# Altium schematic symbol library 171977-0004.SchLib: 1 symbol
Pins are listed as number, name and electrical type; pins without a type are passive.

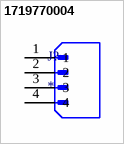
[diagram p0: symbol 1719770004]

## 1719770004
designator J?
2.54mm Pitch SL Header, Single Row, Right-Angle, LCP, Shrouded, Surface Mount, with Pegs, Matte Tin (Sn) Plating, 4 Circuits, Tube; MP: 1719770004; MF: {'manufacturer': u'Molex'}; Price: None; Value: *; Package: None; Availability: Unavailable
footprint MOLEX_1719770004
pins: 1, 2, 3, 4